# Altium integrated library display.IntLib: 16 symbols
Pins are listed as number, name and electrical type; pins without a type are passive.

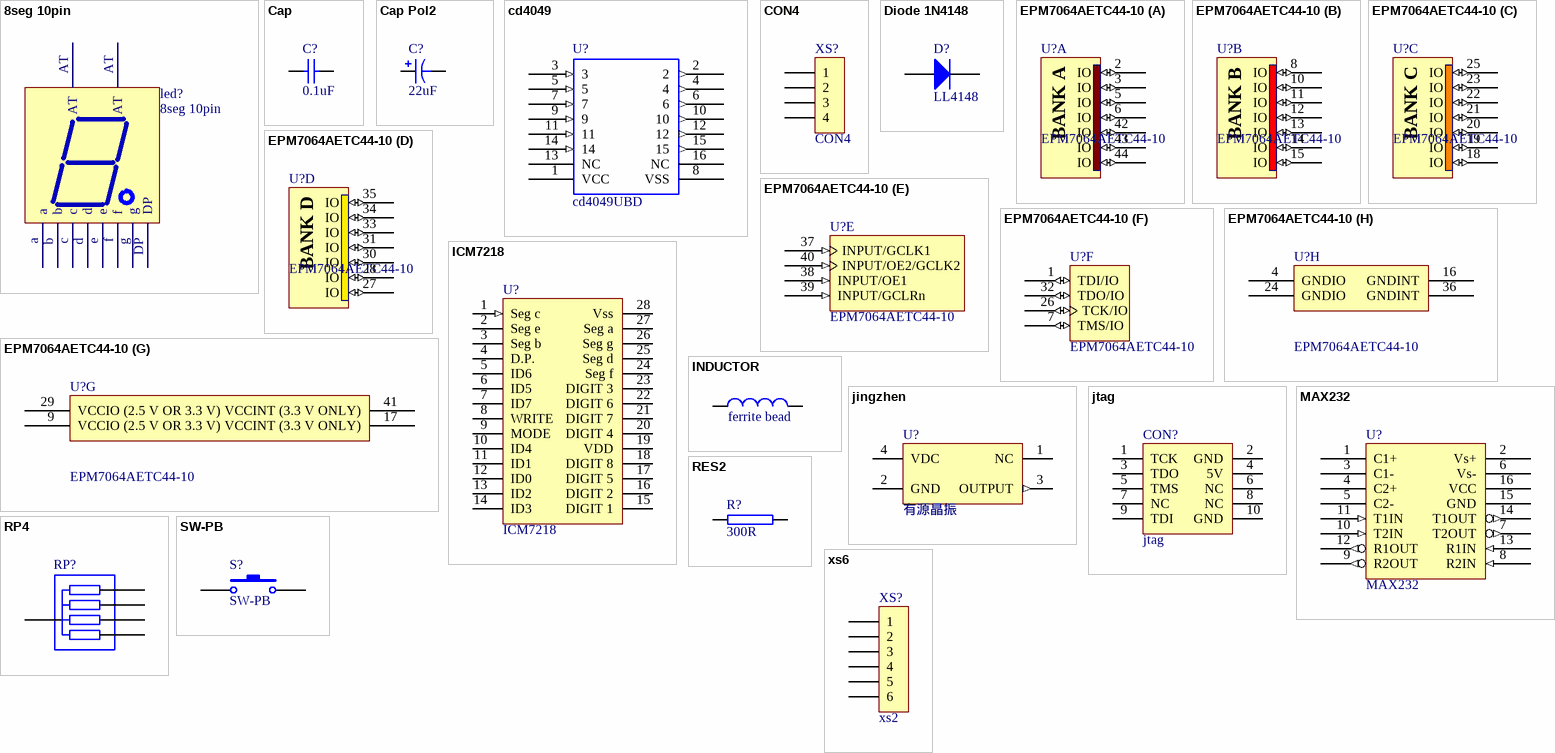
[diagram p0: symbols 8seg 10pin to xs6]

## 8seg 10pin
designator led?
footprint LEDsum
pins: a, AT, AT, b, c, d, DP, e, f, g

## Cap
designator C?  value 0.1uF  (hidden comment: Cap)
Capacitor; Published: 8-Jun-2000; LatestRevisionDate: 17-Jul-2002; LatestRevisionNote: Re-released for DXP Platform.; PackageReference: RAD-0.3; Publisher: Altium Limited
footprint 0805
footprint CAPR2.54-5.1x3.2 (Capacitor, Ceramic, Thru-Hole, Dipped Radial; Body 5.1 x 3.2 mm (WxT) Pin Spacing 2.54 mm (typ))
footprint CAPR5.08-7.8x3.2 (Capacitor, Ceramic, Thru-Hole, Dipped Radial; Body 7.8 x 3.2 mm (WxT) Pin Spacing 5.08 mm (typ))
simulation model CAP (Capacitor)
signal-integrity model Cap
pins: 1, 2

## Cap Pol2
designator C?, comment 22uF
Polarized Capacitor (Axial); Published: 8-Jun-2000; LatestRevisionDate: 17-Jul-2002; LatestRevisionNote: Re-released for DXP Platform.; PackageReference: POLAR0.8; Publisher: Altium Limited; Value: 22uF
footprint 7343 (Capacitor, SM Tantalum; Body 7.3 x 4.3 mm (LxW typ))
footprint CAPPA14.05-10.5x6.3 (Capacitor, Axial, Polarised; Body 10.5 x 6.3 mm (LxDia. max), Lead Dia. 0.6 mm (typ))
footprint CAPPA23.6-18.5x8.5 (Capacitor, Axial, Polarised; Body 18.5 x 8.5 mm (LxDia. max), Lead Dia. 0.8 mm (typ))
footprint CAPPA31.6-26.5x12.5 (Capacitor, Axial, Polarised; Body 26.5 x 12.5 mm (LxDia. max), Lead Dia. 0.8 mm (typ))
footprint CAPPA35.6-30.5x18.5 (Capacitor, Axial, Polarised; Body 30.5 x 18.5 mm (LxDia. max), Lead Dia. 0.8 mm (typ))
footprint CAPPA46.1-41x21.5 (Capacitor, Axial, Polarised; Body 41 x 21.5 mm (LxDia. max), Lead Dia. 0.8 mm (typ))
simulation model CAP (Capacitor)
signal-integrity model Cap Pol
pins: 1, 2
1 alternate drawing of the same symbol

## cd4049
designator U?, comment cd4049UBD
footprint L16_N (SOIC, 16-Leads, Body 9.9x3.9mm, Pitch 1.27mm, IPC Medium Density)
pins: 1 VCC (power), 2 (out), 3 (in), 4 (out), 5 (in), 6 (out), 7 (in), 8 VSS (power), 9 (in), 10 (out), 11 (in), 12 (out), 13 NC, 14 (in), 15 (out), 16 NC

## CON4
designator XS?
Connector
footprint 2SIP4
pins: 1, 2, 3, 4

## Diode 1N4148
designator D?, comment LL4148
High Conductance Fast Diode; Published: 8-Jun-2000; LatestRevisionDate: 17-Jul-2002; LatestRevisionNote: Re-released for DXP Platform.; DatasheetVersion: 1997; PackageReference: DO-35; Publisher: Altium Limited; Code_JEDEC: DO-204-AH; ComponentLink1Description: Manufacturer Link; ComponentLink1URL: http://www.fairchildsemi.com/; ComponentLink2Description: Datasheet; ComponentLink2URL: http://www.fairchildsemi.com/ds/1N%2F1N4148.pdf
footprint DO214 (DO-214-AC/SMA; 2 C-Bend Leads; Body 5.3 x 2.6 mm, inc. leads (LxW))
simulation model 1N4148 (DIODE)
signal-integrity model 1N4148
pins: 1 A, 2 K

## EPM7064AETC44-10
designator U?
MAX 7000AE 3.3V CPLD, 64 Macrocells, 44-Pin TQFP, Speed Grade 10, Commercial Grade; Published: 23-Sep-2002; LatestRevisionDate: 13-Apr-2006; LatestRevisionNote: IPC-7351 Footprint Added.; DatasheetVersion: ver4.5, Sep-2003; PackageVersion: ver14.3, Jul-2006; PackageReference: TQFP44; Publisher: Altium Limited; PackageDescription: 44-Pin Plastic Thin Quad Flat Pack (TFQP44); Supplier 1: Digi-Key; Supplier Part Number 1: 544-1191-ND; Code_JEDEC: MS-026-ACB; ComponentLink1Description: Manufacturer Link; ComponentLink1URL: http://www.altera.com/products/devices/max7k/m7k-index.html; ComponentLink2Description: Datasheet; ComponentLink2URL: http://www.altera.com/literature/ds/m7000a.pdf; ComponentLink3Description: Packaging Specification; ComponentLink3URL: http://www.altera.com/literature/ds/dspkg.pdf
footprint TQFP44_N (Thin QFP, 44-Leads, Body 10x10mm, Pitch 0.8mm, IPC Medium Density)
footprint TQFP44_L (Thin QFP, 44-Leads, Body 10x10mm, Pitch 0.8mm, IPC High Density)
footprint TQFP44_M (Thin QFP, 44-Leads, Body 10x10mm, Pitch 0.8mm, IPC Low Density)
3D model EPM7064AE-TQFP44 (44-Pin Plastic Thin Quad Flat Pack (TFQP44))
signal-integrity model max7kae (MAX 7000AE)
part A pins: 2 IO (io), 3 IO (io), 5 IO (io), 6 IO (io), 42 IO (io), 43 IO (io), 44 IO (io)
part B pins: 8 IO (io), 10 IO (io), 11 IO (io), 12 IO (io), 13 IO (io), 14 IO (io), 15 IO (io)
part C pins: 18 IO (io), 19 IO (io), 20 IO (io), 21 IO (io), 22 IO (io), 23 IO (io), 25 IO (io)
part D pins: 27 IO (io), 28 IO (io), 30 IO (io), 31 IO (io), 33 IO (io), 34 IO (io), 35 IO (io)
part E pins: 37 INPUT/GCLK1 (in), 38 INPUT/OE1 (in), 39 INPUT/GCLRn (in), 40 INPUT/OE2/GCLK2 (in)
part F pins: 1 TDI/IO (io), 7 TMS/IO (io), 26 TCK/IO (io), 32 TDO/IO (io)
part G pins: 9 VCCIO (2.5 V OR 3.3 V) (power), 17 VCCINT (3.3 V ONLY) (power), 29 VCCIO (2.5 V OR 3.3 V) (power), 41 VCCINT (3.3 V ONLY) (power)
part H pins: 4 GNDIO (power), 16 GNDINT (power), 24 GNDIO (power), 36 GNDINT (power)
part A text: BANK A
part B text: BANK B
part C text: BANK C
part D text: BANK D

## ICM7218
designator U?
footprint SO28_L (SOIC, 28-Leads, Body 17.9x7.5mm, Pitch 1.27mm, IPC High Density)
pins: 1 Seg c (in), 2 Seg e, 3 Seg b, 4 D.P., 5 ID6 "(HEXA/CODEB)", 6 ID5 "/DECODE", 7 ID7 "DATA COMING", 8 WRITE, 9 MODE, 10 ID4 "SHUTDOWN", 11 ID1, 12 ID0, 13 ID2, 14 ID3, 15 DIGIT 1, 16 DIGIT 2, 17 DIGIT 5, 18 DIGIT 8, 19 VDD, 20 DIGIT 4, 21 DIGIT 7 (power), 22 DIGIT 6, 23 DIGIT 3, 24 Seg f, 25 Seg d, 26 Seg g, 27 Seg a, 28 Vss

## INDUCTOR
designator L?, comment ferrite bead
footprint 0805
pins: 1, 2

## jingzhen
designator U?, comment 有源晶振
footprint smd7050
pins: 1 NC, 2 GND (power), 3 OUTPUT (out), 4 VDC (power)

## jtag
designator CON?
footprint HDR2X5 (Connector; Header; 5x2 Position)
pins: 1 TCK, 2 GND (power), 3 TDO, 4 5V (power), 5 TMS, 6 NC (power), 7 NC, 8 NC (power), 9 TDI, 10 GND (power)

## MAX232
designator U?
DUAL EIA-232 DRIVER/RECEIVER
footprint SO16_M (SOIC, 16-Leads, Body 9.9x3.8mm, Pitch 1.27mm, IPC Low Density)
footprint DIP16
pins: 1 C1+, 2 Vs+, 3 C1-, 4 C2+, 5 C2-, 6 Vs-, 7 T2OUT (out), 8 R2IN (in), 9 R2OUT (out), 10 T2IN (in), 11 T1IN (in), 12 R1OUT (out), 13 R1IN (in), 14 T1OUT (out), 15 GND (power), 16 VCC (power)
1 alternate drawing of the same symbol

## RES2
designator R?, comment 300R
footprint 0805
pins: 1, 2

## RP4
designator RP?, comment RP1  (value not drawn)
footprint SIP5-2.0
pins: 1, 2, 3, 4, 5

## SW-PB
designator S?
Switch; Published: 24-Mar-1999; LatestRevisionDate: 17-Jul-2002; LatestRevisionNote: Re-released for DXP Platform.; PackageReference: SPST-2; Publisher: Altium Limited
footprint reset
pins: 1, 2

## xs6
designator XS?, comment xs2
footprint SIP6
pins: 1, 2, 3, 4, 5, 6